# Altium schematic symbol library DipSwitch.SchLib: 2 symbols
Pins are listed as number, name and electrical type; pins without a type are passive.

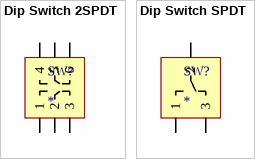
[diagram p0: symbols Dip Switch 2SPDT to Dip Switch SPDT]

## Dip Switch 2SPDT
designator SW?
Two SPDT switch; Digi-Key Part Number: CASD20GCT-ND
footprint DIPSWITCH2SPDT
pins: 1, 2, 3, 4, 5, 6

## Dip Switch SPDT
designator SW?
One SPDT switch; Digi-Key Part Number: 563-1024-1-ND
footprint DipSwitchSPDT
pins: 1, 2, 3